# EAGLE library part K-HEADER-FEMALE-1X8- (library elpp-v1.1)
FEMALE HEADER
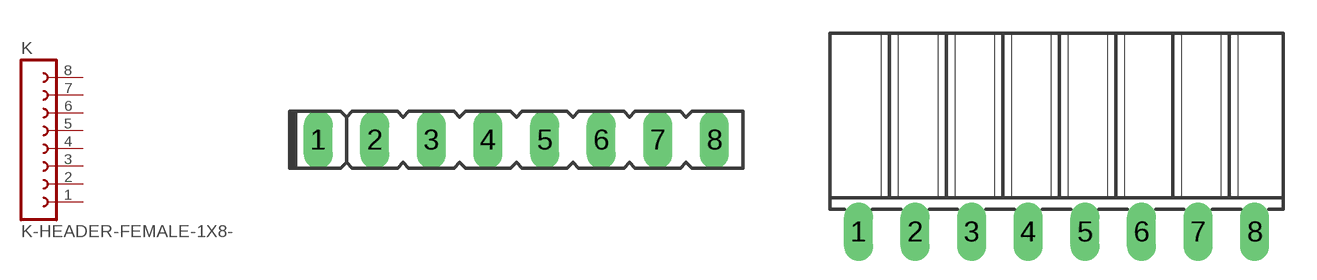
[diagram p20: symbol with the pads of EPP-SIL-F-8-WAY; footprints EPP-SIL-F-8-WAY, EPP-SIL-F-8-WAY-90DEG]

Designator prefix K

## K-HEADER-FEMALE-1X8-V (FARNELL: 9728856; RS: unknown)  [EPP-SIL-F-8-WAY]
1  1  pas
2  2  pas
3  3  pas
4  4  pas
5  5  pas
6  6  pas
7  7  pas
8  8  pas

## K-HEADER-FEMALE-1X8-H (FARNELL: 9728880; RS: unknown)  [EPP-SIL-F-8-WAY-90DEG]
Pads as for EPP-SIL-F-8-WAY

## Footprint EPP-SIL-F-8-WAY (pad centres in mm)
FEMALE HEADER, 1 row
drill 0.8 long: 1 -8.89,0; 2 -6.35,0; 3 -3.81,0; 4 -1.27,0; 5 1.27,0; 6 3.81,0; 7 6.35,0; 8 8.89,0

## Footprint EPP-SIL-F-8-WAY-90DEG (pad centres in mm)
FEMALE HEADER, 1 row, 90 degrees
drill 0.8 long: 1 -8.89,0; 2 -6.35,0; 3 -3.81,0; 4 -1.27,0; 5 1.27,0; 6 3.81,0; 7 6.35,0; 8 8.89,0